# Altium footprint library FH1210S05SH198.PcbLib: 1 footprints
Each footprint in its own frame and in the unit in brackets; x right, y up, seen from the top. Pads: shape width x height; smd on the part's side, far side on the other; paste and mask are expansions set on the pad; w line width, h text height; cw(c..) or ccw(c..) is an arc to the next point about the centre after c.
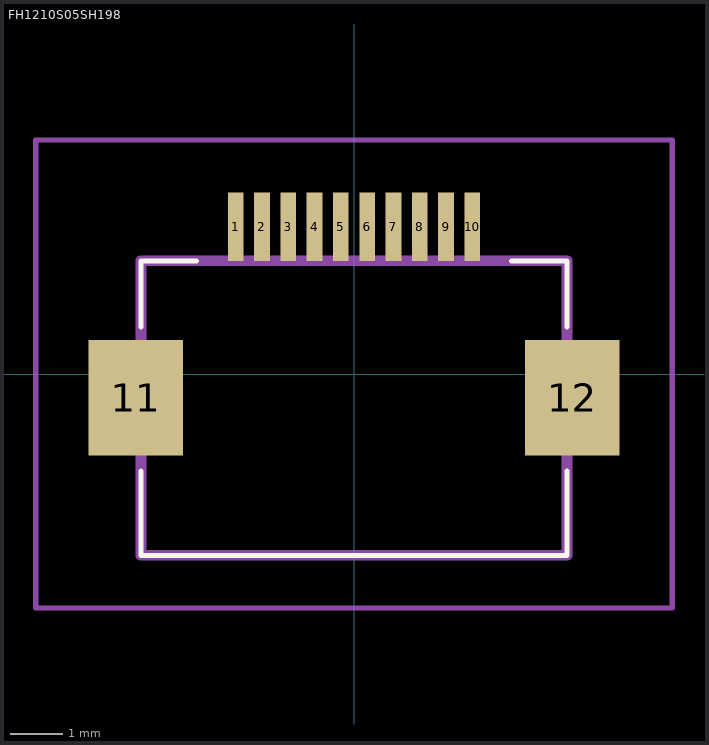
[diagram p0: the footprint, top view; thin cyan lines are the x and y axes]

## FH1210S05SH198 [mm]
pads (12):
  rect 0.3x1.3 smd: 1(-2.25,2.8) 2(-1.75,2.8) 3(-1.25,2.8) 4(-0.75,2.8) 5(-0.25,2.8) 6(0.25,2.8) 7(0.75,2.8) 8(1.25,2.8) 9(1.75,2.8) 10(2.25,2.8)
  rect 1.8x2.2 smd: 11(-4.15,-0.45) 12(4.15,-0.45)
L26-Silk Screen Top (Multiple PADS layers...):
  lines w0.1: -4.05,-1.85 -4.05,-3.45 4.05,-3.45 4.05,-1.85 ; -4.05,0.9 -4.05,2.15 -3,2.15 ; 3,2.15 4.05,2.15 4.05,0.9
L15 (Multiple PADS layers...):
  lines w0.2: -4.05,-3.45 -4.05,2.15 4.05,2.15 4.05,-3.45 -4.05,-3.45
L20:
  lines w0.1: -6.05,-4.45 -6.05,4.45 6.05,4.45 6.05,-4.45 -6.05,-4.45
3D body "FH12-10S-0.5SH.stp": height 2.04, standoff -0.06, extent -4.55,-3.429 4.55,2.971